# Altium schematic symbol library CONN_Video.SchLib: 2 symbols
Pins are listed as number, name and electrical type; pins without a type are passive.

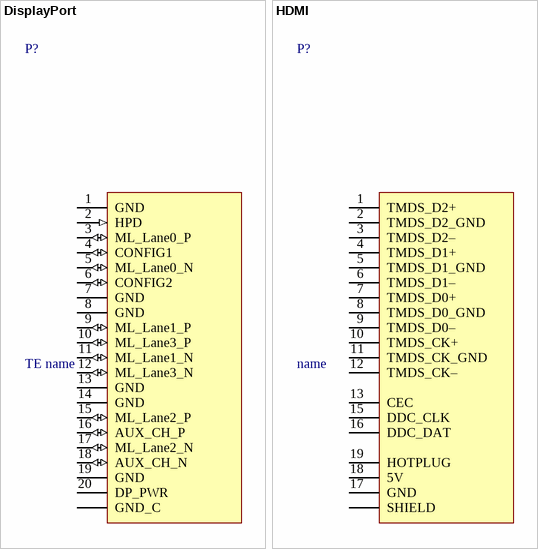
[diagram p0: symbols DisplayPort to HDMI]

## DisplayPort
designator P?, comment TE name
DisplayPort; Name: name; BOMString: TE name; Manufacturer: TE
footprint TE_2129320-3 (Mini Displayport)
footprint MOLEX_47272-0001 (20 Circuits, 0.50mm Pitch, Right Angle DisplayPort* Male Receptacle); pin to pad 1>2 2>18 3>1 4>13 5>3 6>14 7>5 9>4 11>6 13>11 14>16 15>7 16>15 17>9 18>17
pins: 1 GND, 2 HPD (in), 3 ML_Lane0_P (io), 4 CONFIG1 (io), 5 ML_Lane0_N (io), 6 CONFIG2 (io), 7 GND, 8 GND, 9 ML_Lane1_P (io), 10 ML_Lane3_P (io), 11 ML_Lane1_N (io), 12 ML_Lane3_N (io), 13 GND, 14 GND, 15 ML_Lane2_P (io), 16 AUX_CH_P (io), 17 ML_Lane2_N (io), 18 AUX_CH_N (io), 19 GND, 20 DP_PWR (power), SHIELD GND_C

## HDMI
designator P?, comment name
HDMI Jack; Value: name
footprint MOLEX_46765-0001 (0.4mm Pitch, Surface Mount Right Angle 19 Contacts Micro HDMI Type-D Receptacle With Kapton Tape  And SMT Mounting Pads)
footprint MOLEX_46765-1001 (0.4mm Pitch, Surface Mount Right Angle 19 Contacts Micro HDMI Type-D Receptacle With Kapton Tape  And Thru Hole Mounting Pads)
footprint MOLEX_47151-0001 (19 Pin, 0.50mm Pitch, 1.0 HDMI Right Angle Header)
footprint MOLEX_47151-1071 (19 Pin, 0.50mm Pitch, 1.0 HDMI Right Angle Header)
footprint MOLEX_47272-0001 (20 Circuits, 0.50mm Pitch, Right Angle DisplayPort* Male Receptacle)
footprint MOLEX_48307-7022 (19 Contacts, Pitch 0.5mm, Vertical, HDMI Receptacle)
footprint MOLEX_500254-1927 (19 Contacts, Pitch 0.5mm, Right Angle, HDMI Receptacle)
footprint SAMTEC_MHDMR-19-02-H-TH-L-TR (19 Contacts, Pitch 0.4mm, Right Angle, Mini  HDMI High Speed I/O Receptacle)
pins: 1 TMDS_D2+, 2 TMDS_D2_GND, 3 TMDS_D2–, 4 TMDS_D1+, 5 TMDS_D1_GND, 6 TMDS_D1–, 7 TMDS_D0+, 8 TMDS_D0_GND, 9 TMDS_D0–, 10 TMDS_CK+, 11 TMDS_CK_GND, 12 TMDS_CK–, 13 CEC, 15 DDC_CLK, 16 DDC_DAT, 17 GND, 18 5V, 19 HOTPLUG, SHIELD